# Altium schematic symbol library SOD_323_Diode.SchLib: 1 symbol
Pins are listed as number, name and electrical type; pins without a type are passive.

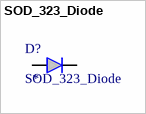
[diagram p0: symbol SOD_323_Diode]

## SOD_323_Diode
designator D?
SOD-323 Switching Diode ROHS; LCSC: *
footprint SOD_323_Diode
pins: 1 K, 2 A